# Altium integrated library Silicon Labs Low-Power MCUs.IntLib: 64 symbols (part 3 of 4)
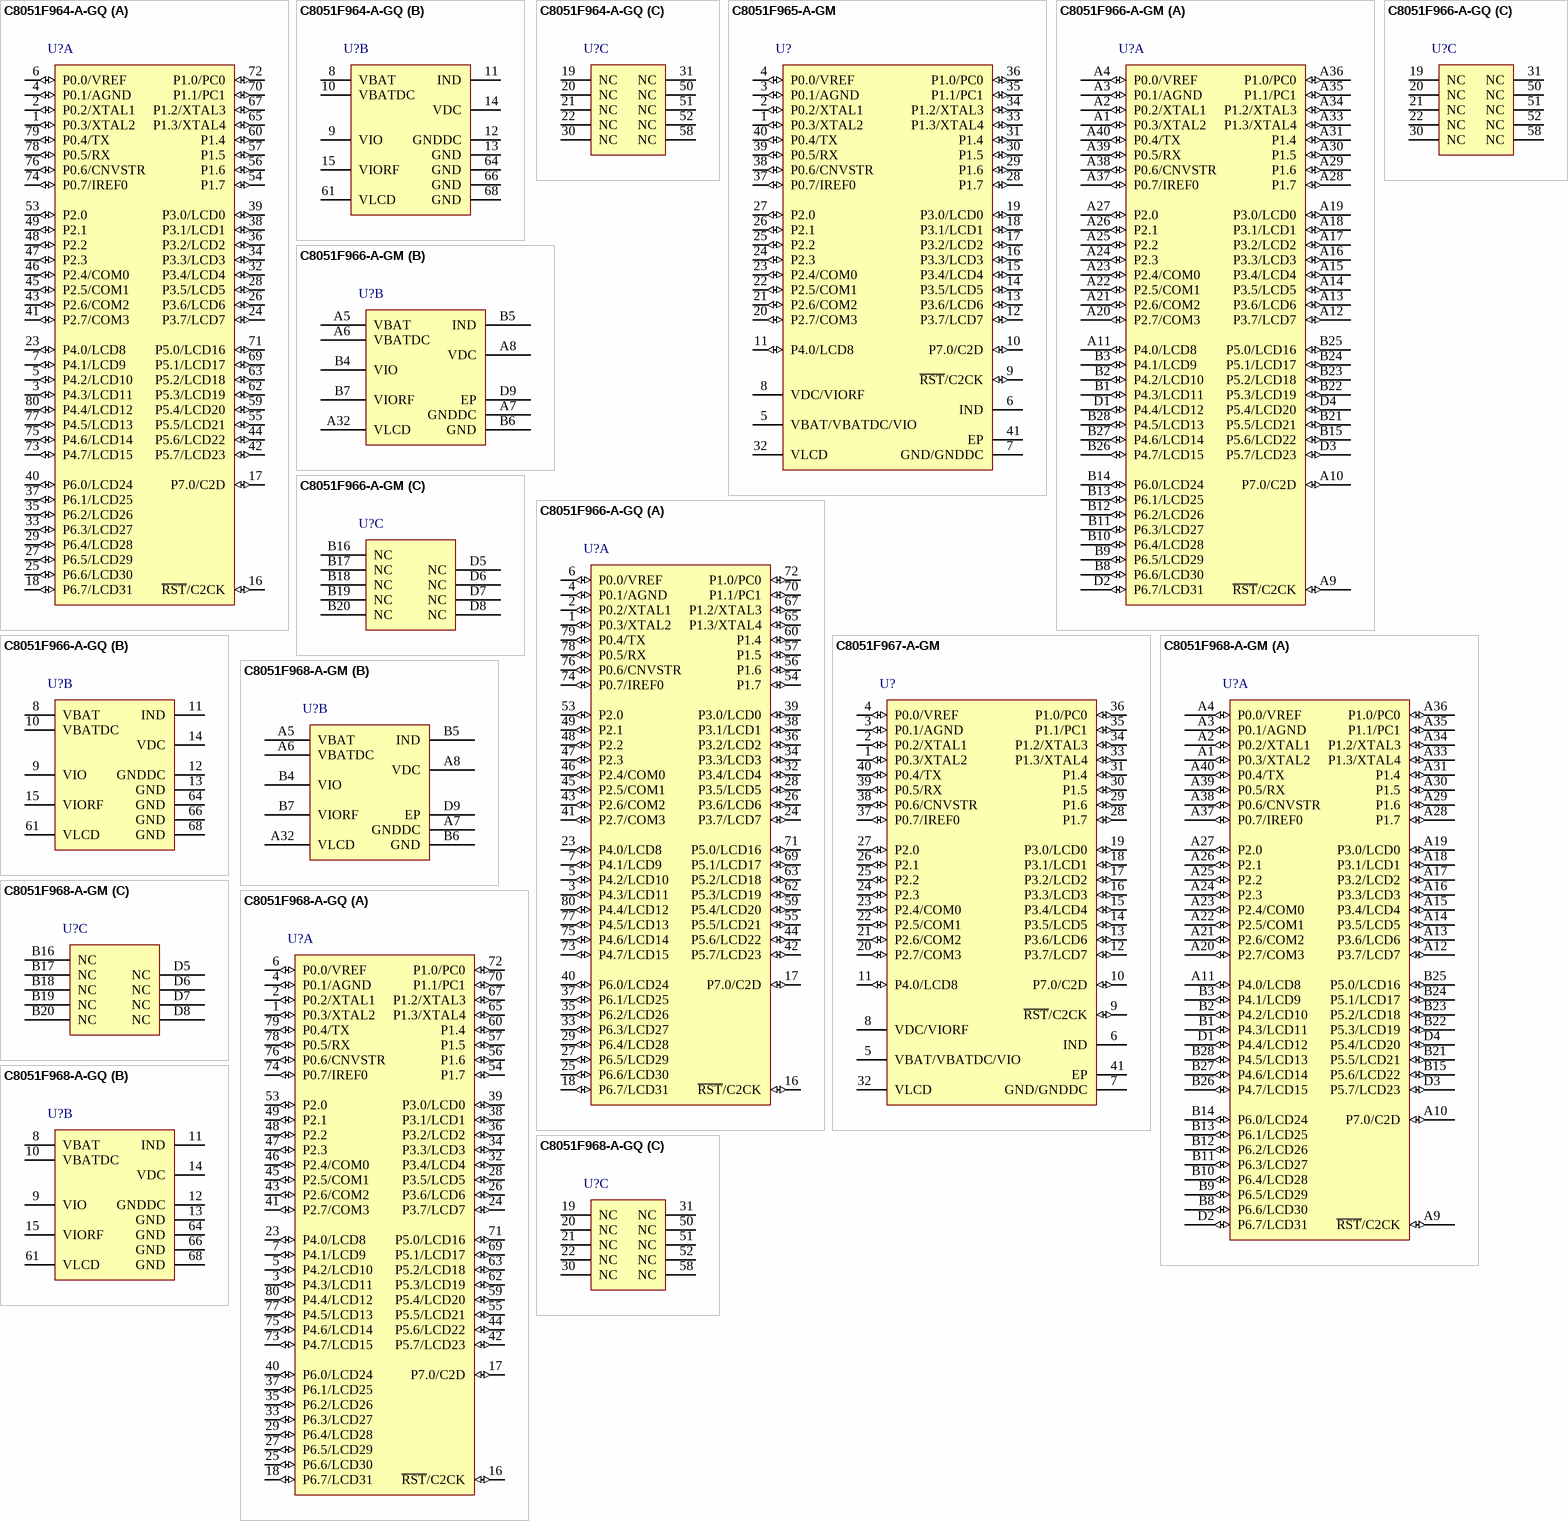
[diagram p7: symbols C8051F964-A-GQ to C8051F968-A-GQ]

## C8051F967-A-GM
designator U?
Ultra Low Power, LCD MCU Family, 25 MHz, 8.25 kB RAM, 32 kB Flash, -40 to 85 degC, 40-pin QFN; Manufacturer: Silicon Labs; PartNumber: C8051F967-A-GM; ADC 1: 12-bit, 16-ch., 75 ksps; AEC-Q100: FALSE; Comparators: 2; Debug Interface: C2; Dig I/O Pins: 34; Flash: 32 kB; Internal Osc. Accuracy: +/-2%; MCU Core: 8051; MHz: 25; PCA Channels: 6; RAM: 8.25 KB; Temp Sensor: TRUE; Timers (16-bit): 4; Sub-Family: Low-Power MCUs; DatasheetVersion: Rev. 0.5; PackageReference: QFN-40; PackageDescription: 40-Pin Quad-Flat No-Leads Package, Body 6 x 6 mm, Pitch 0.5 mm; Supplier 1: Digi-Key; Supplier Part Number 1: 336-2170-ND; Supplier 2: Mouser; Supplier Part Number 2: 634-C8051F967-A-GM; Mounting Technology: Surface Mount; Code_JEDEC: MO-220; Code_IPC: J-STD-020; ComponentLink1Description: Manufacturer URL; ComponentLink1URL: http://www.silabs.com/; ComponentLink2Description: Datasheet; ComponentLink2URL: http://www.silabs.com/Support Documents/TechnicalDocs/C8051F96x.pdf; ComponentLink3Description: Package Specification; ComponentLink3URL: http://www.silabs.com/Support Documents/TechnicalDocs/C8051F50x-51x.pdf
footprint SLAB-QFN-40-4100x4100TP_N (QFN, 40-Leads, Body 6x6mm, Pitch 0.5mm, Thermal Pad 4.1x4.1mm, IPC Medium Density)
footprint SLAB-QFN-40-4100x4100TP_L (QFN, 40-Leads, Body 6x6mm, Pitch 0.5mm, Thermal Pad 4.1x4.1mm, IPC High Density)
footprint SLAB-QFN-40-4100x4100TP_M (QFN, 40-Leads, Body 6x6mm, Pitch 0.5mm, Thermal Pad 4.1x4.1mm, IPC Low Density)
pins: 1 P0.3/XTAL2 (io), 2 P0.2/XTAL1 (io), 3 P0.1/AGND (io), 4 P0.0/VREF (io), 5 VBAT/VBATDC/VIO (power), 6 IND "DC-DC Inductor Pin. This pin requires a 560 nH inductor to VDC if the dc-dc converter is used.", 7 GND/GNDDC (power) "DC-DC converter return current path. This pin is typically tied to the ground plane.", 8 VDC/VIORF (power), 9 ~{RST}/C2CK (io), 10 P7.0/C2D (io), 11 P4.0/LCD8 (io), 12 P3.7/LCD7 (io), 13 P3.6/LCD6 (io), 14 P3.5/LCD5 (io), 15 P3.4/LCD4 (io), 16 P3.3/LCD3 (io), 17 P3.2/LCD2 (io), 18 P3.1/LCD1 (io), 19 P3.0/LCD0 (io), 20 P2.7/COM3 (io), 21 P2.6/COM2 (io), 22 P2.5/COM1 (io), 23 P2.4/COM0 (io), 24 P2.3 (io) "Port 2.3. See Port I/O Section for a complete description.", 25 P2.2 (io) "Port 2.2. See Port I/O Section for a complete description.", 26 P2.1 (io) "Port 2.1. See Port I/O Section for a complete description.", 27 P2.0 (io) "Port 2.0. See Port I/O Section for a complete description.", 28 P1.7 (io) "Port 1.7. See Port I/O Section for a complete description.", 29 P1.6 (io) "Port 1.6. See Port I/O Section for a complete description.", 30 P1.5 (io) "Port 1.5. See Port I/O Section for a complete description.", 31 P1.4 (io) "Port 1.4. See Port I/O Section for a complete description.", 32 VLCD (power) "CD Power Supply. This pin requires a 10 uF capacitor to stabilize the charge pump.", 33 P1.3/XTAL4 (io), 34 P1.2/XTAL3 (io), 35 P1.1/PC1 (io), 36 P1.0/PC0 (io), 37 P0.7/IREF0 (io), 38 P0.6/CNVSTR (io), 39 P0.5/RX (io), 40 P0.4/TX (io), 41 EP (power)

## C8051F968-A-GM
designator U?
Ultra Low Power, LCD MCU Family, 25 MHz, 4.25 kB RAM, 16 kB Flash, -40 to 85 degC, 76-pin DQFN; Manufacturer: Silicon Labs; PartNumber: C8051F968-A-GM; ADC 1: 12-bit, 16-ch., 75 ksps; AEC-Q100: FALSE; Comparators: 2; Debug Interface: C2; Dig I/O Pins: 57; Flash: 16 kB; Internal Osc. Accuracy: +/-2%; MCU Core: 8051; MHz: 25; PCA Channels: 6; RAM: 4.25 kB; Temp Sensor: TRUE; Timers (16-bit): 4; Sub-Family: Low-Power MCUs; DatasheetVersion: Rev. 0.5; PackageReference: DQFN-76; PackageDescription: 76-Pin DQFN, Body 6 x 6 mm, Pitch 0.5 mm; Supplier 1: Digi-Key; Supplier Part Number 1: 336-2171-ND; Supplier 2: Mouser; Supplier Part Number 2: 634-C8051F968-A-GM; Mounting Technology: Surface Mount; Code_IPC: J-STD-020; ComponentLink1Description: Manufacturer URL; ComponentLink1URL: http://www.silabs.com/; ComponentLink2Description: Datasheet; ComponentLink2URL: http://www.silabs.com/Support Documents/TechnicalDocs/C8051F99x.pdf; ComponentLink3Description: Package Specification; ComponentLink3URL: http://www.silabs.com/Support%20Documents/TechnicalDocs/C8051F96x.pdf
footprint SLAB-DQFN-76-3100x3100TP_V (DQFN, 76-Leads, Body 6x6mm, Pitch 0.5mm, Thermal Pad 3.2x3.2mm)
part A pins: A1 P0.3/XTAL2 (io), A2 P0.2/XTAL1 (io), A3 P0.1/AGND (io), A4 P0.0/VREF (io), A9 ~{RST}/C2CK (io), A10 P7.0/C2D (io), A11 P4.0/LCD8 (io), A12 P3.7/LCD7 (io), A13 P3.6/LCD6 (io), A14 P3.5/LCD5 (io), A15 P3.4/LCD4 (io), A16 P3.3/LCD3 (io), A17 P3.2/LCD2 (io), A18 P3.1/LCD1 (io), A19 P3.0/LCD0 (io), A20 P2.7/COM3 (io), A21 P2.6/COM2 (io), A22 P2.5/COM1 (io), A23 P2.4/COM0 (io), A24 P2.3 (io) "Port 2.3. See Port I/O Section for a complete description.", A25 P2.2 (io) "Port 2.2. See Port I/O Section for a complete description.", A26 P2.1 (io) "Port 2.1. See Port I/O Section for a complete description.", A27 P2.0 (io) "Port 2.0. See Port I/O Section for a complete description.", A28 P1.7 (io) "Port 1.7. See Port I/O Section for a complete description.", A29 P1.6 (io) "Port 1.6. See Port I/O Section for a complete description.", A30 P1.5 (io) "Port 1.5. See Port I/O Section for a complete description.", A31 P1.4 (io) "Port 1.4. See Port I/O Section for a complete description.", A33 P1.3/XTAL4 (io), A34 P1.2/XTAL3 (io), A35 P1.1/PC1 (io), A36 P1.0/PC0 (io), A37 P0.7/IREF0 (io), A38 P0.6/CNVSTR (io), A39 P0.5/RX (io), A40 P0.4/TX (io), B1 P4.3/LCD11 (io), B2 P4.2/LCD10 (io), B3 P4.1/LCD9 (io), B8 P6.6/LCD30 (io), B9 P6.5/LCD29 (io), B10 P6.4/LCD28 (io), B11 P6.3/LCD27 (io), B12 P6.2/LCD26 (io), B13 P6.1/LCD25 (io), B14 P6.0/LCD24 (io), B15 P5.6/LCD22 (io), B21 P5.5/LCD21 (io), B22 P5.3/LCD19 (io), B23 P5.2/LCD18 (io), B24 P5.1/LCD17 (io), B25 P5.0/LCD16 (io), B26 P4.7/LCD15 (io), B27 P4.6/LCD14 (io), B28 P4.5/LCD13 (io), D1 P4.4/LCD12 (io), D2 P6.7/LCD31 (io), D3 P5.7/LCD23 (io), D4 P5.4/LCD20 (io)
part B pins: A5 VBAT (power) "Battery Supply Voltage. Must be 1.8 to 3.6 V.", A6 VBATDC (power) "DC0 Input Voltage. Must be 1.8 to 3.6 V.", A7 GNDDC (power) "DC-DC converter return current path. This pin is typically tied to the ground plane.", A8 VDC (power) "Alternate Power Supply Voltage. Must be 1.8 to 3.6V. This supply voltage must always be <= VBAT. Software may select this supply voltage to power the digital logic. Positive output of the dc-dc converter. A 1uF to 10u(See Datasheet)", A32 VLCD (power) "CD Power Supply. This pin requires a 10 uF capacitor to stabilize the charge pump.", B4 VIO (power) "I/O Power Supply for P0.0-P1.4 and P2.4-P7.0 pins. This supply voltage must always be <= VBAT.", B5 IND "DC-DC Inductor Pin. This pin requires a 560 nH inductor to VDC if the dc-dc converter is used.", B6 GND (power) "DC-DC converter return current path. This pin is typically tied to the ground plane.", B7 VIORF (power) "I/O Power Supply for P1.5-P2.3 pins. This supply voltage must always be <= VBAT.", D9 EP
part C pins: B16 NC, B17 NC, B18 NC, B19 NC, B20 NC, D5 NC, D6 NC, D7 NC, D8 NC

## C8051F968-A-GQ
designator U?
Ultra Low Power, LCD MCU Family, 25 MHz, 4.25 kB RAM, 16 kB Flash, -40 to 85 degC, 80-pin QFP; Manufacturer: Silicon Labs; PartNumber: C8051F968-A-GQ; ADC 1: 12-bit, 16-ch., 75 ksps; AEC-Q100: FALSE; Comparators: 2; Debug Interface: C2; Dig I/O Pins: 57; Flash: 16 kB; Internal Osc. Accuracy: +/-2%; MCU Core: 8051; MHz: 25; PCA Channels: 6; RAM: 4.25 kB; Temp Sensor: TRUE; Timers (16-bit): 4; Sub-Family: Low-Power MCUs; DatasheetVersion: Rev. 0.5; PackageReference: TQFP-80; PackageDescription: 80-Pin Thin Quad Flat Package, Body 12 x 12 mm, Pitch 0.5 mm; Supplier 1: Digi-Key; Supplier Part Number 1: 336-2250-5-ND; Supplier 2: Mouser; Supplier Part Number 2: 634-C8051F968-A-GQ; Mounting Technology: Surface Mount; Code_JEDEC: MS-026; Code_IPC: J-STD-020; ComponentLink1Description: Manufacturer URL; ComponentLink1URL: http://www.silabs.com/; ComponentLink2Description: Datasheet; ComponentLink2URL: http://www.silabs.com/Support%20Documents/TechnicalDocs/C8051F96x.pdf; ComponentLink3Description: Package Specification; ComponentLink3URL: http://www.silabs.com/Support%20Documents/TechnicalDocs/SiM3L1xx.pdf
footprint SLAB-TQFP-80_N (QFP, 80-Leads, Body 12x12mm, Pitch 0.5mm, IPC Medium Density)
footprint SLAB-TQFP-80_L (QFP, 80-Leads, Body 12x12mm, Pitch 0.5mm, IPC High Density)
footprint SLAB-TQFP-80_M (QFP, 80-Leads, Body 12x12mm, Pitch 0.5mm, IPC Low Density)
part A pins: 1 P0.3/XTAL2 (io), 2 P0.2/XTAL1 (io), 3 P4.3/LCD11 (io), 4 P0.1/AGND (io), 5 P4.2/LCD10 (io), 6 P0.0/VREF (io), 7 P4.1/LCD9 (io), 16 ~{RST}/C2CK (io), 17 P7.0/C2D (io), 18 P6.7/LCD31 (io), 23 P4.0/LCD8 (io), 24 P3.7/LCD7 (io), 25 P6.6/LCD30 (io), 26 P3.6/LCD6 (io), 27 P6.5/LCD29 (io), 28 P3.5/LCD5 (io), 29 P6.4/LCD28 (io), 32 P3.4/LCD4 (io), 33 P6.3/LCD27 (io), 34 P3.3/LCD3 (io), 35 P6.2/LCD26 (io), 36 P3.2/LCD2 (io), 37 P6.1/LCD25 (io), 38 P3.1/LCD1 (io), 39 P3.0/LCD0 (io), 40 P6.0/LCD24 (io), 41 P2.7/COM3 (io), 42 P5.7/LCD23 (io), 43 P2.6/COM2 (io), 44 P5.6/LCD22 (io), 45 P2.5/COM1 (io), 46 P2.4/COM0 (io), 47 P2.3 (io) "Port 2.3. See Port I/O Section for a complete description.", 48 P2.2 (io) "Port 2.2. See Port I/O Section for a complete description.", 49 P2.1 (io) "Port 2.1. See Port I/O Section for a complete description.", 53 P2.0 (io) "Port 2.0. See Port I/O Section for a complete description.", 54 P1.7 (io) "Port 1.7. See Port I/O Section for a complete description.", 55 P5.5/LCD21 (io), 56 P1.6 (io) "Port 1.6. See Port I/O Section for a complete description.", 57 P1.5 (io) "Port 1.5. See Port I/O Section for a complete description.", 59 P5.4/LCD20 (io), 60 P1.4 (io) "Port 1.4. See Port I/O Section for a complete description.", 62 P5.3/LCD19 (io), 63 P5.2/LCD18 (io), 65 P1.3/XTAL4 (io), 67 P1.2/XTAL3 (io), 69 P5.1/LCD17 (io), 70 P1.1/PC1 (io), 71 P5.0/LCD16 (io), 72 P1.0/PC0 (io), 73 P4.7/LCD15 (io), 74 P0.7/IREF0 (io), 75 P4.6/LCD14 (io), 76 P0.6/CNVSTR (io), 77 P4.5/LCD13 (io), 78 P0.5/RX (io), 79 P0.4/TX (io), 80 P4.4/LCD12 (io)
part B pins: 8 VBAT (power) "Battery Supply Voltage. Must be 1.8 to 3.6 V.", 9 VIO (power) "I/O Power Supply for P0.0-P1.4 and P2.4-P7.0 pins. This supply voltage must always be <= VBAT.", 10 VBATDC (power) "DC0 Input Voltage. Must be 1.8 to 3.6 V.", 11 IND "DC-DC Inductor Pin. This pin requires a 560 nH inductor to VDC if the dc-dc converter is used.", 12 GNDDC (power) "DC-DC converter return current path. This pin is typically tied to the ground plane.", 13 GND (power) "Required Ground.", 14 VDC (power) "Alternate Power Supply Voltage. Must be 1.8 to 3.6V. This supply voltage must always be ? VBAT. Software may select this supply voltage to power the digital logic. Positive output of the dc-dc converter. A 1uF to 10u(See Datasheet)", 15 VIORF (power) "I/O Power Supply for P1.5-P2.3 pins. This supply voltage must always be <= VBAT.", 61 VLCD (power) "CD Power Supply. This pin requires a 10 uF capacitor to stabilize the charge pump.", 64 GND (power) "Required Ground.", 66 GND (power) "Required Ground.", 68 GND (power) "Required Ground."
part C pins: 19 NC, 20 NC, 21 NC, 22 NC, 30 NC, 31 NC, 50 NC, 51 NC, 52 NC, 58 NC

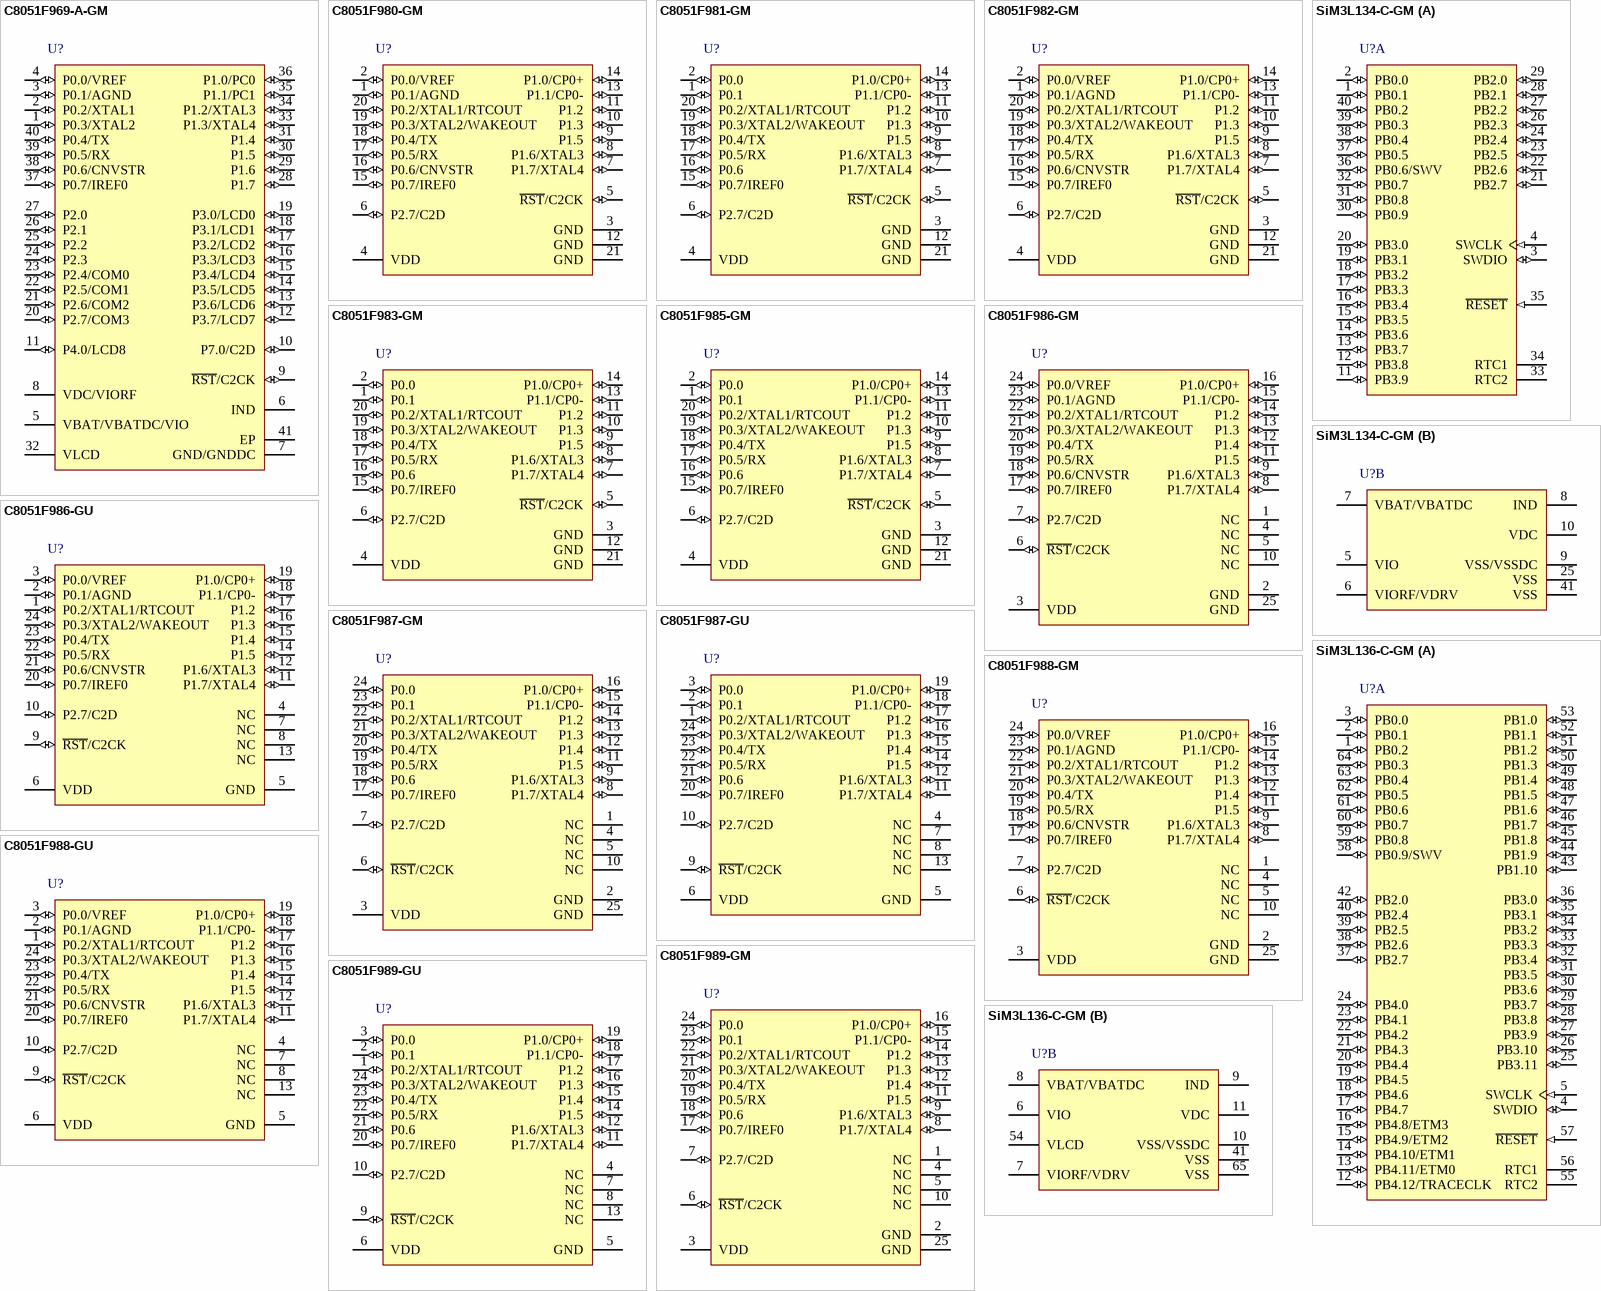
[diagram p3: symbols C8051F969-A-GM to SiM3L136-C-GM]

## C8051F969-A-GM
designator U?
Ultra Low Power, LCD MCU Family, 25 MHz, 4.25 kB RAM, 16 kB Flash, -40 to 85 degC, 40-pin QFN; Manufacturer: Silicon Labs; PartNumber: C8051F969-A-GM; ADC 1: 12-bit, 16-ch., 75 ksps; AEC-Q100: FALSE; Comparators: 2; Debug Interface: C2; Dig I/O Pins: 34; Flash: 16 kB; Internal Osc. Accuracy: +/-2%; MCU Core: 8051; MHz: 25; PCA Channels: 6; RAM: 4.25 kB; Temp Sensor: TRUE; Timers (16-bit): 4; Sub-Family: Low-Power MCUs; DatasheetVersion: Rev. 0.5; PackageReference: QFN-40; PackageDescription: 40-Pin Quad-Flat No-Leads Package, Body 6 x 6 mm, Pitch 0.5 mm; Supplier 1: Digi-Key; Supplier Part Number 1: 336-2172-ND; Supplier 2: Mouser; Supplier Part Number 2: 634-C8051F969-A-GM; Mounting Technology: Surface Mount; Code_JEDEC: MO-220; Code_IPC: J-STD-020; ComponentLink1Description: Manufacturer URL; ComponentLink1URL: http://www.silabs.com/; ComponentLink2Description: Datasheet; ComponentLink2URL: http://www.silabs.com/Support Documents/TechnicalDocs/C8051F96x.pdf; ComponentLink3Description: Package Specification; ComponentLink3URL: http://www.silabs.com/Support Documents/TechnicalDocs/C8051F50x-51x.pdf
footprint SLAB-QFN-40-4100x4100TP_N (QFN, 40-Leads, Body 6x6mm, Pitch 0.5mm, Thermal Pad 4.1x4.1mm, IPC Medium Density)
footprint SLAB-QFN-40-4100x4100TP_L (QFN, 40-Leads, Body 6x6mm, Pitch 0.5mm, Thermal Pad 4.1x4.1mm, IPC High Density)
footprint SLAB-QFN-40-4100x4100TP_M (QFN, 40-Leads, Body 6x6mm, Pitch 0.5mm, Thermal Pad 4.1x4.1mm, IPC Low Density)
pins: 1 P0.3/XTAL2 (io), 2 P0.2/XTAL1 (io), 3 P0.1/AGND (io), 4 P0.0/VREF (io), 5 VBAT/VBATDC/VIO (power), 6 IND "DC-DC Inductor Pin. This pin requires a 560 nH inductor to VDC if the dc-dc converter is used.", 7 GND/GNDDC (power) "DC-DC converter return current path. This pin is typically tied to the ground plane.", 8 VDC/VIORF (power), 9 ~{RST}/C2CK (io), 10 P7.0/C2D (io), 11 P4.0/LCD8 (io), 12 P3.7/LCD7 (io), 13 P3.6/LCD6 (io), 14 P3.5/LCD5 (io), 15 P3.4/LCD4 (io), 16 P3.3/LCD3 (io), 17 P3.2/LCD2 (io), 18 P3.1/LCD1 (io), 19 P3.0/LCD0 (io), 20 P2.7/COM3 (io), 21 P2.6/COM2 (io), 22 P2.5/COM1 (io), 23 P2.4/COM0 (io), 24 P2.3 (io) "Port 2.3. See Port I/O Section for a complete description.", 25 P2.2 (io) "Port 2.2. See Port I/O Section for a complete description.", 26 P2.1 (io) "Port 2.1. See Port I/O Section for a complete description.", 27 P2.0 (io) "Port 2.0. See Port I/O Section for a complete description.", 28 P1.7 (io) "Port 1.7. See Port I/O Section for a complete description.", 29 P1.6 (io) "Port 1.6. See Port I/O Section for a complete description.", 30 P1.5 (io) "Port 1.5. See Port I/O Section for a complete description.", 31 P1.4 (io) "Port 1.4. See Port I/O Section for a complete description.", 32 VLCD (power) "CD Power Supply. This pin requires a 10 uF capacitor to stabilize the charge pump.", 33 P1.3/XTAL4 (io), 34 P1.2/XTAL3 (io), 35 P1.1/PC1 (io), 36 P1.0/PC0 (io), 37 P0.7/IREF0 (io), 38 P0.6/CNVSTR (io), 39 P0.5/RX (io), 40 P0.4/TX (io), 41 EP (power)

## C8051F980-GM
designator U?
Ultra Low Power, Capacitive Sensing MCU, 25 MHz, 0.5 kB RAM, 8 kB Flash, -40 to 85 degC, 20-pin QFN; Manufacturer: Silicon Labs; PartNumber: C8051F980-GM; AEC-Q100: FALSE; Comparators: 1; Debug Interface: C2; Dig I/O Pins: 16; Flash: 8 kB; Internal Osc. Accuracy: +/-2%; MCU Core: 8051; MHz: 25; PCA Channels: 3; RAM: 0.5 kB; Temp Sensor: TRUE; Timers (16-bit): 4; Sub-Family: Low-Power MCUs; DatasheetVersion: Rev. 1.1; PackageReference: QFN-20; PackageDescription: 20-Pin Quad-Flat No-Leads Package, Body 3 x 3 mm, Pitch 0.5 mm; Supplier 1: Digi-Key; Supplier Part Number 1: 336-1948-5-ND; Supplier 2: Mouser; Supplier Part Number 2: 634-C8051F980-GM; Mounting Technology: Surface Mount; Code_IPC: J-STD-020; ComponentLink1Description: Manufacturer URL; ComponentLink1URL: http://www.silabs.com/; ComponentLink2Description: Datasheet; ComponentLink2URL: http://www.silabs.com/Support Documents/TechnicalDocs/C8051F99x.pdf; ComponentLink3Description: Package Specification; ComponentLink3URL: http://www.silabs.com/Support%20Documents/TechnicalDocs/C8051F99x.pdf
footprint SLAB-QFN-20-1700x1700TP_V (QFN, 20-Leads, Body 3x3mm, Pitch 0.5mm, Thermal Pad 1.7x1.7mm)
pins: 1 P0.1/AGND (io), 2 P0.0/VREF (io), 3 GND (power) "Required Ground.", 4 VDD (power) "Power Supply Voltage. Must be 1.8 to 3.6 V.", 5 ~{RST}/C2CK (io), 6 P2.7/C2D (io), 7 P1.7/XTAL4 (io), 8 P1.6/XTAL3 (io), 9 P1.5 (io) "Port 1.5.", 10 P1.3 (io) "Port 1.3.", 11 P1.2 (io) "Port 1.2.", 12 GND (power) "Required Ground.", 13 P1.1/CP0- (io), 14 P1.0/CP0+ (io), 15 P0.7/IREF0 (io), 16 P0.6/CNVSTR (io), 17 P0.5/RX (io), 18 P0.4/TX (io), 19 P0.3/XTAL2/WAKEOUT (io), 20 P0.2/XTAL1/RTCOUT (io), 21 GND (power) "Required Ground."

## C8051F981-GM
designator U?
Ultra Low Power, Capacitive Sensing MCU, 25 MHz, 0.5 kB RAM, 8 kB Flash, -40 to 85 degC, 20-pin QFN; Manufacturer: Silicon Labs; PartNumber: C8051F981-GM; AEC-Q100: FALSE; Comparators: 1; Debug Interface: C2; Dig I/O Pins: 16; Flash: 8 kB; Internal Osc. Accuracy: +/-2%; MCU Core: 8051; MHz: 25; PCA Channels: 3; RAM: 0.5 kB; Timers (16-bit): 4; Sub-Family: Low-Power MCUs; DatasheetVersion: Rev. 1.1; PackageReference: QFN-20; PackageDescription: 20-Pin Quad-Flat No-Leads Package, Body 3 x 3 mm, Pitch 0.5 mm; Supplier 1: Digi-Key; Supplier Part Number 1: 336-1947-5-ND; Supplier 2: Mouser; Supplier Part Number 2: 634-C8051F981-GM; Temp Sensor: FALSE; Mounting Technology: Surface Mount; Code_IPC: J-STD-020; ComponentLink1Description: Manufacturer URL; ComponentLink1URL: http://www.silabs.com/; ComponentLink2Description: Datasheet; ComponentLink2URL: http://www.silabs.com/Support Documents/TechnicalDocs/C8051F99x.pdf; ComponentLink3Description: Package Specification; ComponentLink3URL: http://www.silabs.com/Support%20Documents/TechnicalDocs/C8051F99x.pdf
footprint SLAB-QFN-20-1700x1700TP_V (QFN, 20-Leads, Body 3x3mm, Pitch 0.5mm, Thermal Pad 1.7x1.7mm)
pins: 1 P0.1 (io) "Port 0.1.", 2 P0.0 (io) "Port 0.0.", 3 GND (power) "Required Ground.", 4 VDD (power) "Power Supply Voltage. Must be 1.8 to 3.6 V.", 5 ~{RST}/C2CK (io), 6 P2.7/C2D (io), 7 P1.7/XTAL4 (io), 8 P1.6/XTAL3 (io), 9 P1.5 (io) "Port 1.5.", 10 P1.3 (io) "Port 1.3.", 11 P1.2 (io) "Port 1.2.", 12 GND (power) "Required Ground.", 13 P1.1/CP0- (io), 14 P1.0/CP0+ (io), 15 P0.7/IREF0 (io), 16 P0.6 (io) "Port 0.6.", 17 P0.5/RX (io), 18 P0.4/TX (io), 19 P0.3/XTAL2/WAKEOUT (io), 20 P0.2/XTAL1/RTCOUT (io), 21 GND (power) "Required Ground."

## C8051F982-GM
designator U?
Ultra Low Power, Capacitive Sensing MCU, 25 MHz, 0.5 kB RAM, 4 kB Flash, -40 to 85 degC, 20-pin QFN; Manufacturer: Silicon Labs; PartNumber: C8051F982-GM; AEC-Q100: FALSE; Comparators: 1; Debug Interface: C2; Dig I/O Pins: 16; Flash: 4 kB; Internal Osc. Accuracy: +/-2%; MCU Core: 8051; MHz: 25; PCA Channels: 3; RAM: 0.5 kB; Temp Sensor: TRUE; Timers (16-bit): 4; Sub-Family: Low-Power MCUs; DatasheetVersion: Rev. 1.1; PackageReference: QFN-20; PackageDescription: 20-Pin Quad-Flat No-Leads Package, Body 3 x 3 mm, Pitch 0.5 mm; Supplier 1: Digi-Key; Supplier Part Number 1: 336-1949-5-ND; Supplier 2: Mouser; Supplier Part Number 2: 634-C8051F982-GM; Mounting Technology: Surface Mount; Code_IPC: J-STD-020; ComponentLink1Description: Manufacturer URL; ComponentLink1URL: http://www.silabs.com/; ComponentLink2Description: Datasheet; ComponentLink2URL: http://www.silabs.com/Support Documents/TechnicalDocs/C8051F99x.pdf; ComponentLink3Description: Package Specification; ComponentLink3URL: http://www.silabs.com/Support%20Documents/TechnicalDocs/C8051F99x.pdf
footprint SLAB-QFN-20-1700x1700TP_V (QFN, 20-Leads, Body 3x3mm, Pitch 0.5mm, Thermal Pad 1.7x1.7mm)
pins: 1 P0.1/AGND (io), 2 P0.0/VREF (io), 3 GND (power) "Required Ground.", 4 VDD (power) "Power Supply Voltage. Must be 1.8 to 3.6 V.", 5 ~{RST}/C2CK (io), 6 P2.7/C2D (io), 7 P1.7/XTAL4 (io), 8 P1.6/XTAL3 (io), 9 P1.5 (io) "Port 1.5.", 10 P1.3 (io) "Port 1.3.", 11 P1.2 (io) "Port 1.2.", 12 GND (power) "Required Ground.", 13 P1.1/CP0- (io), 14 P1.0/CP0+ (io), 15 P0.7/IREF0 (io), 16 P0.6/CNVSTR (io), 17 P0.5/RX (io), 18 P0.4/TX (io), 19 P0.3/XTAL2/WAKEOUT (io), 20 P0.2/XTAL1/RTCOUT (io), 21 GND (power) "Required Ground."

## C8051F983-GM
designator U?
Ultra Low Power, Capacitive Sensing MCU, 25 MHz, 0.5 kB RAM, 4 kB Flash, -40 to 85 degC, 20-pin QFN; Manufacturer: Silicon Labs; PartNumber: C8051F983-GM; AEC-Q100: FALSE; Comparators: 1; Debug Interface: C2; Dig I/O Pins: 16; Flash: 4 kB; Internal Osc. Accuracy: +/-2%; MCU Core: 8051; MHz: 25; PCA Channels: 3; RAM: 0.5 kB; Timers (16-bit): 4; Sub-Family: Low-Power MCUs; DatasheetVersion: Rev. 1.1; PackageReference: QFN-20; PackageDescription: 20-Pin Quad-Flat No-Leads Package, Body 3 x 3 mm, Pitch 0.5 mm; Supplier 1: Digi-Key; Supplier Part Number 1: 336-1950-5-ND; Supplier 2: Mouser; Supplier Part Number 2: 634-C8051F983-GM; Temp Sensor: FALSE; Mounting Technology: Surface Mount; Code_IPC: J-STD-020; ComponentLink1Description: Manufacturer URL; ComponentLink1URL: http://www.silabs.com/; ComponentLink2Description: Datasheet; ComponentLink2URL: http://www.silabs.com/Support Documents/TechnicalDocs/C8051F99x.pdf; ComponentLink3Description: Package Specification; ComponentLink3URL: http://www.silabs.com/Support%20Documents/TechnicalDocs/C8051F99x.pdf
footprint SLAB-QFN-20-1700x1700TP_V (QFN, 20-Leads, Body 3x3mm, Pitch 0.5mm, Thermal Pad 1.7x1.7mm)
pins: 1 P0.1 (io) "Port 0.1.", 2 P0.0 (io) "Port 0.0.", 3 GND (power) "Required Ground.", 4 VDD (power) "Power Supply Voltage. Must be 1.8 to 3.6 V.", 5 ~{RST}/C2CK (io), 6 P2.7/C2D (io), 7 P1.7/XTAL4 (io), 8 P1.6/XTAL3 (io), 9 P1.5 (io) "Port 1.5.", 10 P1.3 (io) "Port 1.3.", 11 P1.2 (io) "Port 1.2.", 12 GND (power) "Required Ground.", 13 P1.1/CP0- (io), 14 P1.0/CP0+ (io), 15 P0.7/IREF0 (io), 16 P0.6 (io) "Port 0.6.", 17 P0.5/RX (io), 18 P0.4/TX (io), 19 P0.3/XTAL2/WAKEOUT (io), 20 P0.2/XTAL1/RTCOUT (io), 21 GND (power) "Required Ground."

## C8051F985-GM
designator U?
Ultra Low Power, Capacitive Sensing MCU, 25 MHz, 0.5 kB RAM, 2 kB Flash, -40 to 85 degC, 20-pin QFN; Manufacturer: Silicon Labs; PartNumber: C8051F985-GM; AEC-Q100: FALSE; Comparators: 1; Debug Interface: C2; Dig I/O Pins: 16; Flash: 2 kB; Internal Osc. Accuracy: +/-2%; MCU Core: 8051; MHz: 25; PCA Channels: 3; RAM: 0.5 kB; Timers (16-bit): 4; Sub-Family: Low-Power MCUs; DatasheetVersion: Rev. 1.1; PackageReference: QFN-20; PackageDescription: 20-Pin Quad-Flat No-Leads Package, Body 3 x 3 mm, Pitch 0.5 mm; Supplier 1: Digi-Key; Supplier Part Number 1: 336-1951-5-ND; Supplier 2: Mouser; Supplier Part Number 2: 634-C8051F985-GM; Temp Sensor: FALSE; Mounting Technology: Surface Mount; Code_IPC: J-STD-020; ComponentLink1Description: Manufacturer URL; ComponentLink1URL: http://www.silabs.com/; ComponentLink2Description: Datasheet; ComponentLink2URL: http://www.silabs.com/Support Documents/TechnicalDocs/C8051F99x.pdf; ComponentLink3Description: Package Specification; ComponentLink3URL: http://www.silabs.com/Support%20Documents/TechnicalDocs/C8051F99x.pdf
footprint SLAB-QFN-20-1700x1700TP_V (QFN, 20-Leads, Body 3x3mm, Pitch 0.5mm, Thermal Pad 1.7x1.7mm)
pins: 1 P0.1 (io) "Port 0.1.", 2 P0.0 (io) "Port 0.0.", 3 GND (power) "Required Ground.", 4 VDD (power) "Power Supply Voltage. Must be 1.8 to 3.6 V.", 5 ~{RST}/C2CK (io), 6 P2.7/C2D (io), 7 P1.7/XTAL4 (io), 8 P1.6/XTAL3 (io), 9 P1.5 (io) "Port 1.5.", 10 P1.3 (io) "Port 1.3.", 11 P1.2 (io) "Port 1.2.", 12 GND (power) "Required Ground.", 13 P1.1/CP0- (io), 14 P1.0/CP0+ (io), 15 P0.7/IREF0 (io), 16 P0.6 (io) "Port 0.6.", 17 P0.5/RX (io), 18 P0.4/TX (io), 19 P0.3/XTAL2/WAKEOUT (io), 20 P0.2/XTAL1/RTCOUT (io), 21 GND (power) "Required Ground."

## C8051F986-GM
designator U?
Ultra Low Power, Capacitive Sensing MCU, 25 MHz, 0.5 kB RAM, 8 kB Flash, -40 to 85 degC, 24-pin QFN; Manufacturer: Silicon Labs; PartNumber: C8051F986-GM; AEC-Q100: FALSE; Comparators: 1; Debug Interface: C2; Dig I/O Pins: 17; Flash: 8 kB; Internal Osc. Accuracy: +/-2%; MCU Core: 8051; MHz: 25; PCA Channels: 3; RAM: 0.5 kB; Temp Sensor: TRUE; Timers (16-bit): 4; Sub-Family: Low-Power MCUs; DatasheetVersion: Rev. 1.1; PackageReference: QFN-24; PackageDescription: 24-Pin Quad-Flat No-Leads Package, Body 4 x 4 mm, Pitch 0.5 mm; Supplier 1: Digi-Key; Supplier Part Number 1: 336-1952-5-ND; Supplier 2: Mouser; Supplier Part Number 2: 634-C8051F986-GM; Mounting Technology: Surface Mount; Code_JEDEC: MO-220; Code_IPC: J-STD-020; ComponentLink1Description: Manufacturer URL; ComponentLink1URL: http://www.silabs.com/; ComponentLink2Description: Datasheet; ComponentLink2URL: http://www.silabs.com/Support Documents/TechnicalDocs/C8051F99x.pdf; ComponentLink3Description: Package Specification; ComponentLink3URL: http://www.silabs.com/Support%20Documents/TechnicalDocs/C8051F93x-92x.pdf
footprint SLAB-QFN-24-2675x2675TP_N (QFN, 24-Leads, Body 4x4mm, Pitch 0.5mm, Thermal Pad 2.68x2.68mm, IPC Medium Density)
footprint SLAB-QFN-24-2675x2675TP_L (QFN, 24-Leads, Body 4x4mm, Pitch 0.5mm, Thermal Pad 2.68x2.68mm, IPC High Density)
footprint SLAB-QFN-24-2675x2675TP_M (QFN, 24-Leads, Body 4x4mm, Pitch 0.5mm, Thermal Pad 2.68x2.68mm, IPC Low Density)
pins: 1 NC, 2 GND (power) "Required Ground.", 3 VDD (power) "Power Supply Voltage. Must be 1.8 to 3.6 V", 4 NC, 5 NC, 6 ~{RST}/C2CK (io), 7 P2.7/C2D (io), 8 P1.7/XTAL4 (io), 9 P1.6/XTAL3 (io), 10 NC, 11 P1.5 (io) "Port 1.5. See Section “21. Port Input/Output” on  page 213 for a complete description.", 12 P1.4 (io) "Port 1.4. See Section “21. Port Input/Output” on  page 213 for a complete description.", 13 P1.3 (io) "Port 1.3. See Section “21. Port Input/Output” on  page 213 for a complete description.", 14 P1.2 (io) "Port 1.2. See Section “21. Port Input/Output” on  page 213 for a complete description.", 15 P1.1/CP0- (io), 16 P1.0/CP0+ (io), 17 P0.7/IREF0 (io), 18 P0.6/CNVSTR (io), 19 P0.5/RX (io), 20 P0.4/TX (io), 21 P0.3/XTAL2/WAKEOUT (io), 22 P0.2/XTAL1/RTCOUT (io), 23 P0.1/AGND (io), 24 P0.0/VREF (io), 25 GND (power) "Required Ground."

## C8051F986-GU
designator U?
Ultra Low Power, Capacitive Sensing MCU, 25 MHz, 0.5 kB RAM, 8 kB Flash, -40 to 85 degC, 24-pin SOP; Manufacturer: Silicon Labs; PartNumber: C8051F986-GU; AEC-Q100: FALSE; Comparators: 1; Debug Interface: C2; Dig I/O Pins: 17; Flash: 8 kB; Internal Osc. Accuracy: +/-2%; MCU Core: 8051; MHz: 25; PCA Channels: 3; RAM: 0.5 kB; Temp Sensor: TRUE; Timers (16-bit): 4; Sub-Family: Low-Power MCUs; DatasheetVersion: Rev. 1.1; PackageReference: QSOP-24; PackageDescription: 24-Pin Quarter-Size Small-Outline Package, Body 8.65 x 3.9 mm, Pitch 0.635 mm; Supplier 1: Digi-Key; Supplier Part Number 1: 336-1953-5-ND; Supplier 2: Mouser; Supplier Part Number 2: 634-C8051F986-GU; Mounting Technology: Surface Mount; Code_JEDEC: MO-147; Code_IPC: J-STD-020; ComponentLink1Description: Manufacturer URL; ComponentLink1URL: http://www.silabs.com/; ComponentLink2Description: Datasheet; ComponentLink2URL: http://www.silabs.com/Support Documents/TechnicalDocs/C8051F99x.pdf; ComponentLink3Description: Package Specification; ComponentLink3URL: http://www.silabs.com/Support%20Documents/TechnicalDocs/C8051F99x.pdf
footprint SLAB-QSOP-24_N (SOP, 24-Leads, Body 8.65x3.9mm, Pitch 0.635mm, IPC Medium Density)
footprint SLAB-QSOP-24_L (SOP, 24-Leads, Body 8.65x3.9mm, Pitch 0.635mm, IPC High Density)
footprint SLAB-QSOP-24_M (SOP, 24-Leads, Body 8.65x3.9mm, Pitch 0.635mm, IPC Low Density)
pins: 1 P0.2/XTAL1/RTCOUT (io), 2 P0.1/AGND (io), 3 P0.0/VREF (io), 4 NC, 5 GND (power) "Required Ground.", 6 VDD (power) "Power Supply Voltage. Must be 1.8 to 3.6 V", 7 NC, 8 NC, 9 ~{RST}/C2CK (io), 10 P2.7/C2D (io), 11 P1.7/XTAL4 (io), 12 P1.6/XTAL3 (io), 13 NC, 14 P1.5 (io) "Port 1.5. See Section “21. Port Input/Output” on  page 213 for a complete description.", 15 P1.4 (io) "Port 1.4. See Section “21. Port Input/Output” on  page 213 for a complete description.", 16 P1.3 (io) "Port 1.3. See Section “21. Port Input/Output” on  page 213 for a complete description.", 17 P1.2 (io) "Port 1.2. See Section “21. Port Input/Output” on  page 213 for a complete description.", 18 P1.1/CP0- (io), 19 P1.0/CP0+ (io), 20 P0.7/IREF0 (io), 21 P0.6/CNVSTR (io), 22 P0.5/RX (io), 23 P0.4/TX (io), 24 P0.3/XTAL2/WAKEOUT (io)

## C8051F987-GM
designator U?
Ultra Low Power, Capacitive Sensing MCU, 25 MHz, 0.5 kB RAM, 8 kB Flash, -40 to 85 degC, 24-pin QFN; Manufacturer: Silicon Labs; PartNumber: C8051F987-GM; AEC-Q100: FALSE; Comparators: 1; Debug Interface: C2; Dig I/O Pins: 17; Flash: 8 kB; Internal Osc. Accuracy: +/-2%; MCU Core: 8051; MHz: 25; PCA Channels: 3; RAM: 0.5 kB; Timers (16-bit): 4; Sub-Family: Low-Power MCUs; DatasheetVersion: Rev. 1.1; PackageReference: QFN-24; PackageDescription: 24-Pin Quad-Flat No-Leads Package, Body 4 x 4 mm, Pitch 0.5 mm; Supplier 1: Digi-Key; Supplier Part Number 1: 336-1954-5-ND; Supplier 2: Mouser; Supplier Part Number 2: 634-C8051F987-GM; Temp Sensor: FALSE; Mounting Technology: Surface Mount; Code_JEDEC: MO-220; Code_IPC: J-STD-020; ComponentLink1Description: Manufacturer URL; ComponentLink1URL: http://www.silabs.com/; ComponentLink2Description: Datasheet; ComponentLink2URL: http://www.silabs.com/Support Documents/TechnicalDocs/C8051F99x.pdf; ComponentLink3Description: Package Specification; ComponentLink3URL: http://www.silabs.com/Support%20Documents/TechnicalDocs/C8051F93x-92x.pdf
footprint SLAB-QFN-24-2675x2675TP_N (QFN, 24-Leads, Body 4x4mm, Pitch 0.5mm, Thermal Pad 2.68x2.68mm, IPC Medium Density)
footprint SLAB-QFN-24-2675x2675TP_L (QFN, 24-Leads, Body 4x4mm, Pitch 0.5mm, Thermal Pad 2.68x2.68mm, IPC High Density)
footprint SLAB-QFN-24-2675x2675TP_M (QFN, 24-Leads, Body 4x4mm, Pitch 0.5mm, Thermal Pad 2.68x2.68mm, IPC Low Density)
pins: 1 NC, 2 GND (power) "Required Ground.", 3 VDD (power) "Power Supply Voltage. Must be 1.8 to 3.6 V", 4 NC, 5 NC, 6 ~{RST}/C2CK (io), 7 P2.7/C2D (io), 8 P1.7/XTAL4 (io), 9 P1.6/XTAL3 (io), 10 NC, 11 P1.5 (io) "Port 1.5. See Section ”21. Port Input/Output“ on  page 213 for a complete description.", 12 P1.4 (io) "Port 1.4. See Section ”21. Port Input/Output“ on  page 213 for a complete description.", 13 P1.3 (io) "Port 1.3. See Section ”21. Port Input/Output“ on  page 213 for a complete description.", 14 P1.2 (io) "Port 1.2. See Section “21. Port Input/Output” on  page 213 for a complete description.", 15 P1.1/CP0- (io), 16 P1.0/CP0+ (io), 17 P0.7/IREF0 (io), 18 P0.6 (io) "Port 0.6. See Section "21. Port Input/Output" on  page 213 for a complete description.", 19 P0.5/RX (io), 20 P0.4/TX (io), 21 P0.3/XTAL2/WAKEOUT (io), 22 P0.2/XTAL1/RTCOUT (io), 23 P0.1 (io) "Port 0.1. See Port I/O Section for a complete description.", 24 P0.0 (io) "Port 0.0. See Port I/O Section for a complete description.", 25 GND (power) "Required Ground."

## C8051F987-GU
designator U?
Ultra Low Power, Capacitive Sensing MCU, 25 MHz, 0.5 kB RAM, 8 kB Flash, -40 to 85 degC, 24-pin SOP; Manufacturer: Silicon Labs; PartNumber: C8051F987-GU; AEC-Q100: FALSE; Comparators: 1; Debug Interface: C2; Dig I/O Pins: 17; Flash: 8 kB; Internal Osc. Accuracy: +/-2%; MCU Core: 8051; MHz: 25; PCA Channels: 3; RAM: 0.5 kB; Timers (16-bit): 4; Sub-Family: Low-Power MCUs; DatasheetVersion: Rev. 1.1; PackageReference: QSOP-24; PackageDescription: 24-Pin Quarter-Size Small-Outline Package, Body 8.65 x 3.9 mm, Pitch 0.635 mm; Supplier 1: Digi-Key; Supplier Part Number 1: 336-1955-5-ND; Supplier 2: Mouser; Supplier Part Number 2: 634-C8051F987-GU; Temp Sensor: FALSE; Mounting Technology: Surface Mount; Code_JEDEC: MO-147; Code_IPC: J-STD-020; ComponentLink1Description: Manufacturer URL; ComponentLink1URL: http://www.silabs.com/; ComponentLink2Description: Datasheet; ComponentLink2URL: http://www.silabs.com/Support Documents/TechnicalDocs/C8051F99x.pdf; ComponentLink3Description: Package Specification; ComponentLink3URL: http://www.silabs.com/Support%20Documents/TechnicalDocs/C8051F99x.pdf
footprint SLAB-QSOP-24_N (SOP, 24-Leads, Body 8.65x3.9mm, Pitch 0.635mm, IPC Medium Density)
footprint SLAB-QSOP-24_L (SOP, 24-Leads, Body 8.65x3.9mm, Pitch 0.635mm, IPC High Density)
footprint SLAB-QSOP-24_M (SOP, 24-Leads, Body 8.65x3.9mm, Pitch 0.635mm, IPC Low Density)
pins: 1 P0.2/XTAL1/RTCOUT (io), 2 P0.1 (io) "Port 0.1. See Port I/O Section for a complete description", 3 P0.0 (io) "Port 0.0. See Port I/O Section for a complete description.", 4 NC, 5 GND (power) "Required Ground.", 6 VDD (power) "Power Supply Voltage. Must be 1.8 to 3.6 V", 7 NC, 8 NC, 9 ~{RST}/C2CK (io), 10 P2.7/C2D (io), 11 P1.7/XTAL4 (io), 12 P1.6/XTAL3 (io), 13 NC, 14 P1.5 (io) "Port 1.5. See Section “21. Port Input/Output” on  page 213 for a complete description.", 15 P1.4 (io) "Port 1.4. See Section “21. Port Input/Output” on  page 213 for a complete description.", 16 P1.3 (io) "Port 1.3. See Section “21. Port Input/Output” on  page 213 for a complete description.", 17 P1.2 (io) "Port 1.2. See Section “21. Port Input/Output” on  page 213 for a complete description.", 18 P1.1/CP0- (io), 19 P1.0/CP0+ (io), 20 P0.7/IREF0 (io), 21 P0.6 (io) "Port 0.6. See Section “21. Port Input/Output” on  page 213 for a complete description.", 22 P0.5/RX (io), 23 P0.4/TX (io), 24 P0.3/XTAL2/WAKEOUT (io)

## C8051F988-GM
designator U?
Ultra Low Power, Capacitive Sensing MCU, 25 MHz, 0.5 kB RAM, 4 kB Flash, -40 to 85 degC, 24-pin QFN; Manufacturer: Silicon Labs; PartNumber: C8051F988-GM; AEC-Q100: FALSE; Comparators: 1; Debug Interface: C2; Dig I/O Pins: 17; Flash: 4 kB; Internal Osc. Accuracy: +/-2%; MCU Core: 8051; MHz: 25; PCA Channels: 3; RAM: 0.5 kB; Temp Sensor: TRUE; Timers (16-bit): 4; Sub-Family: Low-Power MCUs; DatasheetVersion: Rev. 1.1; PackageReference: QFN-24; PackageDescription: 24-Pin Quad-Flat No-Leads Package, Body 4 x 4 mm, Pitch 0.5 mm; Supplier 1: Digi-Key; Supplier Part Number 1: 336-1959-5-ND; Supplier 2: Mouser; Supplier Part Number 2: 634-C8051F988-GM; Mounting Technology: Surface Mount; Code_JEDEC: MO-220; Code_IPC: J-STD-020; ComponentLink1Description: Manufacturer URL; ComponentLink1URL: http://www.silabs.com/; ComponentLink2Description: Datasheet; ComponentLink2URL: http://www.silabs.com/Support Documents/TechnicalDocs/C8051F99x.pdf; ComponentLink3Description: Package Specification; ComponentLink3URL: http://www.silabs.com/Support%20Documents/TechnicalDocs/C8051F93x-92x.pdf
footprint SLAB-QFN-24-2675x2675TP_N (QFN, 24-Leads, Body 4x4mm, Pitch 0.5mm, Thermal Pad 2.68x2.68mm, IPC Medium Density)
footprint SLAB-QFN-24-2675x2675TP_L (QFN, 24-Leads, Body 4x4mm, Pitch 0.5mm, Thermal Pad 2.68x2.68mm, IPC High Density)
footprint SLAB-QFN-24-2675x2675TP_M (QFN, 24-Leads, Body 4x4mm, Pitch 0.5mm, Thermal Pad 2.68x2.68mm, IPC Low Density)
pins: 1 NC, 2 GND (power) "Required Ground.", 3 VDD (power) "Power Supply Voltage. Must be 1.8 to 3.6 V", 4 NC, 5 NC, 6 ~{RST}/C2CK (io), 7 P2.7/C2D (io), 8 P1.7/XTAL4 (io), 9 P1.6/XTAL3 (io), 10 NC, 11 P1.5 (io) "Port 1.5. See Section “21. Port Input/Output” on  page 213 for a complete description.", 12 P1.4 (io) "Port 1.4. See Section “21. Port Input/Output” on  page 213 for a complete description.", 13 P1.3 (io) "Port 1.3. See Section “21. Port Input/Output” on  page 213 for a complete description.", 14 P1.2 (io) "Port 1.2. See Section “21. Port Input/Output” on  page 213 for a complete description.", 15 P1.1/CP0- (io), 16 P1.0/CP0+ (io), 17 P0.7/IREF0 (io), 18 P0.6/CNVSTR (io), 19 P0.5/RX (io), 20 P0.4/TX (io), 21 P0.3/XTAL2/WAKEOUT (io), 22 P0.2/XTAL1/RTCOUT (io), 23 P0.1/AGND (io), 24 P0.0/VREF (io), 25 GND (power) "Required Ground."

## C8051F988-GU
designator U?
Ultra Low Power, Capacitive Sensing MCU, 25 MHz, 0.5 kB RAM, 4 kB Flash, -40 to 85 degC, 24-pin SOP; Manufacturer: Silicon Labs; PartNumber: C8051F988-GU; AEC-Q100: FALSE; Comparators: 1; Debug Interface: C2; Dig I/O Pins: 17; Flash: 4 kB; Internal Osc. Accuracy: +/-2%; MCU Core: 8051; MHz: 25; PCA Channels: 3; RAM: 0.5 kB; Temp Sensor: TRUE; Timers (16-bit): 4; Sub-Family: Low-Power MCUs; DatasheetVersion: Rev. 1.1; PackageReference: QSOP-24; PackageDescription: 24-Pin Quarter-Size Small-Outline Package, Body 8.65 x 3.9 mm, Pitch 0.635 mm; Supplier 1: Digi-Key; Supplier Part Number 1: 336-1956-5-ND; Supplier 2: Mouser; Supplier Part Number 2: 634-C8051F988-GU; Mounting Technology: Surface Mount; Code_JEDEC: MO-147; Code_IPC: J-STD-020; ComponentLink1Description: Manufacturer URL; ComponentLink1URL: http://www.silabs.com/; ComponentLink2Description: Datasheet; ComponentLink2URL: http://www.silabs.com/Support Documents/TechnicalDocs/C8051F99x.pdf; ComponentLink3Description: Package Specification; ComponentLink3URL: http://www.silabs.com/Support%20Documents/TechnicalDocs/C8051F99x.pdf
footprint SLAB-QSOP-24_N (SOP, 24-Leads, Body 8.65x3.9mm, Pitch 0.635mm, IPC Medium Density)
footprint SLAB-QSOP-24_L (SOP, 24-Leads, Body 8.65x3.9mm, Pitch 0.635mm, IPC High Density)
footprint SLAB-QSOP-24_M (SOP, 24-Leads, Body 8.65x3.9mm, Pitch 0.635mm, IPC Low Density)
pins: 1 P0.2/XTAL1/RTCOUT (io), 2 P0.1/AGND (io), 3 P0.0/VREF (io), 4 NC, 5 GND (power) "Required Ground.", 6 VDD (power) "Power Supply Voltage. Must be 1.8 to 3.6 V", 7 NC, 8 NC, 9 ~{RST}/C2CK (io), 10 P2.7/C2D (io), 11 P1.7/XTAL4 (io), 12 P1.6/XTAL3 (io), 13 NC, 14 P1.5 (io) "Port 1.5. See Section “21. Port Input/Output” on  page 213 for a complete description.", 15 P1.4 (io) "Port 1.4. See Section “21. Port Input/Output” on  page 213 for a complete description.", 16 P1.3 (io) "Port 1.3. See Section “21. Port Input/Output” on  page 213 for a complete description.", 17 P1.2 (io) "Port 1.2. See Section “21. Port Input/Output” on  page 213 for a complete description.", 18 P1.1/CP0- (io), 19 P1.0/CP0+ (io), 20 P0.7/IREF0 (io), 21 P0.6/CNVSTR (io), 22 P0.5/RX (io), 23 P0.4/TX (io), 24 P0.3/XTAL2/WAKEOUT (io)

## C8051F989-GM
designator U?
Ultra Low Power, Capacitive Sensing MCU, 25 MHz, 0.5 kB RAM, 4 kB Flash, -40 to 85 degC, 24-pin QFN; Manufacturer: Silicon Labs; PartNumber: C8051F989-GM; AEC-Q100: FALSE; Comparators: 1; Debug Interface: C2; Dig I/O Pins: 17; Flash: 4 kB; Internal Osc. Accuracy: +/-2%; MCU Core: 8051; MHz: 25; PCA Channels: 3; RAM: 0.5 kB; Timers (16-bit): 4; Sub-Family: Low-Power MCUs; DatasheetVersion: Rev. 1.1; PackageReference: QFN-24; PackageDescription: 24-Pin Quad-Flat No-Leads Package, Body 4 x 4 mm, Pitch 0.5 mm; Supplier 1: Digi-Key; Supplier Part Number 1: 336-1957-5-ND; Supplier 2: Mouser; Supplier Part Number 2: 634-C8051F989-GM; Temp Sensor: FALSE; Mounting Technology: Surface Mount; Code_JEDEC: MO-220; Code_IPC: J-STD-020; ComponentLink1Description: Manufacturer URL; ComponentLink1URL: http://www.silabs.com/; ComponentLink2Description: Datasheet; ComponentLink2URL: http://www.silabs.com/Support Documents/TechnicalDocs/C8051F99x.pdf; ComponentLink3Description: Package Specification; ComponentLink3URL: http://www.silabs.com/Support%20Documents/TechnicalDocs/C8051F93x-92x.pdf
footprint SLAB-QFN-24-2675x2675TP_N (QFN, 24-Leads, Body 4x4mm, Pitch 0.5mm, Thermal Pad 2.68x2.68mm, IPC Medium Density)
footprint SLAB-QFN-24-2675x2675TP_L (QFN, 24-Leads, Body 4x4mm, Pitch 0.5mm, Thermal Pad 2.68x2.68mm, IPC High Density)
footprint SLAB-QFN-24-2675x2675TP_M (QFN, 24-Leads, Body 4x4mm, Pitch 0.5mm, Thermal Pad 2.68x2.68mm, IPC Low Density)
pins: 1 NC, 2 GND (power) "Required Ground.", 3 VDD (power) "Power Supply Voltage. Must be 1.8 to 3.6 V", 4 NC, 5 NC, 6 ~{RST}/C2CK (io), 7 P2.7/C2D (io), 8 P1.7/XTAL4 (io), 9 P1.6/XTAL3 (io), 10 NC, 11 P1.5 (io) "Port 1.5. See Section ”21. Port Input/Output“ on  page 213 for a complete description.", 12 P1.4 (io) "Port 1.4. See Section ”21. Port Input/Output“ on  page 213 for a complete description.", 13 P1.3 (io) "Port 1.3. See Section ”21. Port Input/Output“ on  page 213 for a complete description.", 14 P1.2 (io) "Port 1.2. See Section “21. Port Input/Output” on  page 213 for a complete description.", 15 P1.1/CP0- (io), 16 P1.0/CP0+ (io), 17 P0.7/IREF0 (io), 18 P0.6 (io) "Port 0.6. See Section "21. Port Input/Output" on  page 213 for a complete description.", 19 P0.5/RX (io), 20 P0.4/TX (io), 21 P0.3/XTAL2/WAKEOUT (io), 22 P0.2/XTAL1/RTCOUT (io), 23 P0.1 (io) "Port 0.1. See Port I/O Section for a complete description.", 24 P0.0 (io) "Port 0.0. See Port I/O Section for a complete description.", 25 GND (power) "Required Ground."

## C8051F989-GU
designator U?
Ultra Low Power, Capacitive Sensing MCU, 25 MHz, 0.5 kB RAM, 4 kB Flash, -40 to 85 degC, 24-pin SOP; Manufacturer: Silicon Labs; PartNumber: C8051F989-GU; AEC-Q100: FALSE; Comparators: 1; Debug Interface: C2; Dig I/O Pins: 17; Flash: 4 kB; Internal Osc. Accuracy: +/-2%; MCU Core: 8051; MHz: 25; PCA Channels: 3; RAM: 0.5 kB; Timers (16-bit): 4; Sub-Family: Low-Power MCUs; DatasheetVersion: Rev. 1.1; PackageReference: QSOP-24; PackageDescription: 24-Pin Quarter-Size Small-Outline Package, Body 8.65 x 3.9 mm, Pitch 0.635 mm; Supplier 1: Digi-Key; Supplier Part Number 1: 336-1958-5-ND; Supplier 2: Mouser; Supplier Part Number 2: 634-C8051F989-GU; Temp Sensor: FALSE; Mounting Technology: Surface Mount; Code_JEDEC: MO-147; Code_IPC: J-STD-020; ComponentLink1Description: Manufacturer URL; ComponentLink1URL: http://www.silabs.com/; ComponentLink2Description: Datasheet; ComponentLink2URL: http://www.silabs.com/Support Documents/TechnicalDocs/C8051F99x.pdf; ComponentLink3Description: Package Specification; ComponentLink3URL: http://www.silabs.com/Support%20Documents/TechnicalDocs/C8051F99x.pdf
footprint SLAB-QSOP-24_N (SOP, 24-Leads, Body 8.65x3.9mm, Pitch 0.635mm, IPC Medium Density)
footprint SLAB-QSOP-24_L (SOP, 24-Leads, Body 8.65x3.9mm, Pitch 0.635mm, IPC High Density)
footprint SLAB-QSOP-24_M (SOP, 24-Leads, Body 8.65x3.9mm, Pitch 0.635mm, IPC Low Density)
pins: 1 P0.2/XTAL1/RTCOUT (io), 2 P0.1 (io) "Port 0.1. See Port I/O Section for a complete description", 3 P0.0 (io) "Port 0.0. See Port I/O Section for a complete description.", 4 NC, 5 GND (power) "Required Ground.", 6 VDD (power) "Power Supply Voltage. Must be 1.8 to 3.6 V", 7 NC, 8 NC, 9 ~{RST}/C2CK (io), 10 P2.7/C2D (io), 11 P1.7/XTAL4 (io), 12 P1.6/XTAL3 (io), 13 NC, 14 P1.5 (io) "Port 1.5. See Section “21. Port Input/Output” on  page 213 for a complete description.", 15 P1.4 (io) "Port 1.4. See Section “21. Port Input/Output” on  page 213 for a complete description.", 16 P1.3 (io) "Port 1.3. See Section “21. Port Input/Output” on  page 213 for a complete description.", 17 P1.2 (io) "Port 1.2. See Section “21. Port Input/Output” on  page 213 for a complete description.", 18 P1.1/CP0- (io), 19 P1.0/CP0+ (io), 20 P0.7/IREF0 (io), 21 P0.6 (io) "Port 0.6. See Section “21. Port Input/Output” on  page 213 for a complete description.", 22 P0.5/RX (io), 23 P0.4/TX (io), 24 P0.3/XTAL2/WAKEOUT (io)

## SiM3L134-C-GM
designator U?
High-Performance, Low-Power, 32-Bit Precision32(TM) MCU Family, 50 MHz, 8 kB RAM, 32 kB Flash, -40 to 85 degC, 40-pin QFN; Manufacturer: Silicon Labs; PartNumber: SiM3L134-C-GM; ADC 1: 12-bit, 20-ch., 250 ksps; Comparators: 2; DAC: 10-bit; Debug Interface: SW; Dig I/O Pins: 28; Flash: 32 kB; Internal Osc. Accuracy: +/-2%; MCU Core: ARM Cortex-M3; MHz: 50; PCA Channels: 6; RAM: 8 kB; Temp Sensor: TRUE; Timers (16-bit): 3; Sub-Family: Low-Power MCUs; DatasheetVersion: Rev. 0.5; PackageReference: QFN-40; PackageDescription: 40-Pin Quad-Flat No-Leads Package, Body 6 x 6 mm, Pitch 0.5 mm; Supplier 1: Digi-Key; Supplier Part Number 1: 336-2350-ND; Supplier 2: Mouser; Supplier Part Number 2: 634-SIM3L134-C-GM; Mounting Technology: Surface Mount; Code_JEDEC: MO-220; Code_IPC: J-STD-020; ComponentLink1Description: Manufacturer URL; ComponentLink1URL: http://www.silabs.com/; ComponentLink2Description: Datasheet; ComponentLink2URL: http://www.silabs.com/Support Documents/TechnicalDocs/SiM3L1xx.pdf; ComponentLink3Description: Package Specification; ComponentLink3URL: http://www.silabs.com/Support%20Documents/TechnicalDocs/SiM3L1xx.pdf
footprint SLAB-QFN-40-4500x4500TP_N (QFN, 40-Leads, Body 6x6mm, Pitch 0.5mm, Thermal Pad 4.5x4.5mm, IPC Medium Density)
footprint SLAB-QFN-40-4500x4500TP_L (QFN, 40-Leads, Body 6x6mm, Pitch 0.5mm, Thermal Pad 4.5x4.5mm, IPC High Density)
footprint SLAB-QFN-40-4500x4500TP_M (QFN, 40-Leads, Body 6x6mm, Pitch 0.5mm, Thermal Pad 4.5x4.5mm, IPC Low Density)
part A pins: 1 PB0.1 (io), 2 PB0.0 (io), 3 SWDIO (io), 4 SWCLK (in), 11 PB3.9 (io), 12 PB3.8 (io), 13 PB3.7 (io), 14 PB3.6 (io), 15 PB3.5 (io), 16 PB3.4 (io), 17 PB3.3 (io), 18 PB3.2 (io), 19 PB3.1 (io), 20 PB3.0 (io), 21 PB2.7 (io), 22 PB2.6 (io), 23 PB2.5 (io), 24 PB2.4 (io), 26 PB2.3 (io), 27 PB2.2 (io), 28 PB2.1 (io), 29 PB2.0 (io), 30 PB0.9 (io), 31 PB0.8 (io), 32 PB0.7 (io), 33 RTC2, 34 RTC1, 35 ~{RESET} (in), 36 PB0.6/SWV (io), 37 PB0.5 (io), 38 PB0.4 (io), 39 PB0.3 (io), 40 PB0.2 (io)
part B pins: 5 VIO (power), 6 VIORF/VDRV (power), 7 VBAT/VBATDC (power), 8 IND, 9 VSS/VSSDC (power), 10 VDC (power), 25 VSS (power), 41 VSS (power)

## SiM3L136-C-GM
designator U?
High-Performance, Low-Power, 32-Bit Precision32(TM) MCU Family, 50 MHz, 8 kB RAM, 32 kB Flash, -40 to 85 degC, 64-pin QFN; Manufacturer: Silicon Labs; PartNumber: SiM3L136-C-GM; ADC 1: 12-bit, 23-ch., 250 ksps; Comparators: 2; DAC: 10-bit; Debug Interface: ETM; SW; Dig I/O Pins: 51; Flash: 32 kB; Internal Osc. Accuracy: +/-2%; MCU Core: ARM Cortex-M3; MHz: 50; PCA Channels: 6; RAM: 8 kB; Temp Sensor: TRUE; Timers (16-bit): 3; Sub-Family: Low-Power MCUs; DatasheetVersion: Rev. 0.5; PackageReference: QFN-64; PackageDescription: 64-Pin Quad-Flat No-Leads Package, Body 9 x 9 mm, Pitch 0.5 mm; Supplier 1: Digi-Key; Supplier Part Number 1: 336-2349-ND; Supplier 2: Mouser; Supplier Part Number 2: 634-SIM3L136-C-GM; Mounting Technology: Surface Mount; Code_JEDEC: MO-220; Code_IPC: J-STD-020; ComponentLink1Description: Manufacturer URL; ComponentLink1URL: http://www.silabs.com/; ComponentLink2Description: Datasheet; ComponentLink2URL: http://www.silabs.com/Support Documents/TechnicalDocs/SiM3L1xx.pdf; ComponentLink3Description: Package Specification; ComponentLink3URL: http://www.silabs.com/Support%20Documents/TechnicalDocs/SiM3U1xx.pdf
footprint SLAB-QFN-64-4100x4100TP_N (QFN, 64-Leads, Body 9x9mm, Pitch 0.5mm, Thermal Pad 4.1x4.1mm, IPC Medium Density)
footprint SLAB-QFN-64-4100x4100TP_L (QFN, 64-Leads, Body 9x9mm, Pitch 0.5mm, Thermal Pad 4.1x4.1mm, IPC High Density)
footprint SLAB-QFN-64-4100x4100TP_M (QFN, 64-Leads, Body 9x9mm, Pitch 0.5mm, Thermal Pad 4.1x4.1mm, IPC Low Density)
part A pins: 1 PB0.2 (io), 2 PB0.1 (io), 3 PB0.0 (io), 4 SWDIO (io), 5 SWCLK (in), 12 PB4.12/TRACECLK (io), 13 PB4.11/ETM0 (io), 14 PB4.10/ETM1 (io), 15 PB4.9/ETM2 (io), 16 PB4.8/ETM3 (io), 17 PB4.7 (io), 18 PB4.6 (io), 19 PB4.5 (io), 20 PB4.4 (io), 21 PB4.3 (io), 22 PB4.2 (io), 23 PB4.1 (io), 24 PB4.0 (io), 25 PB3.11 (io), 26 PB3.10 (io), 27 PB3.9 (io), 28 PB3.8 (io), 29 PB3.7 (io), 30 PB3.6 (io), 31 PB3.5 (io), 32 PB3.4 (io), 33 PB3.3 (io), 34 PB3.2 (io), 35 PB3.1 (io), 36 PB3.0 (io), 37 PB2.7 (io), 38 PB2.6 (io), 39 PB2.5 (io), 40 PB2.4 (io), 42 PB2.0 (io), 43 PB1.10 (io), 44 PB1.9 (io), 45 PB1.8 (io), 46 PB1.7 (io), 47 PB1.6 (io), 48 PB1.5 (io), 49 PB1.4 (io), 50 PB1.3 (io), 51 PB1.2 (io), 52 PB1.1 (io), 53 PB1.0 (io), 55 RTC2, 56 RTC1, 57 ~{RESET} (in), 58 PB0.9/SWV (io), 59 PB0.8 (io), 60 PB0.7 (io), 61 PB0.6 (io), 62 PB0.5 (io), 63 PB0.4 (io), 64 PB0.3 (io)
part B pins: 6 VIO (power), 7 VIORF/VDRV (power), 8 VBAT/VBATDC (power), 9 IND, 10 VSS/VSSDC (power), 11 VDC (power), 41 VSS (power), 54 VLCD (power), 65 VSS (power)

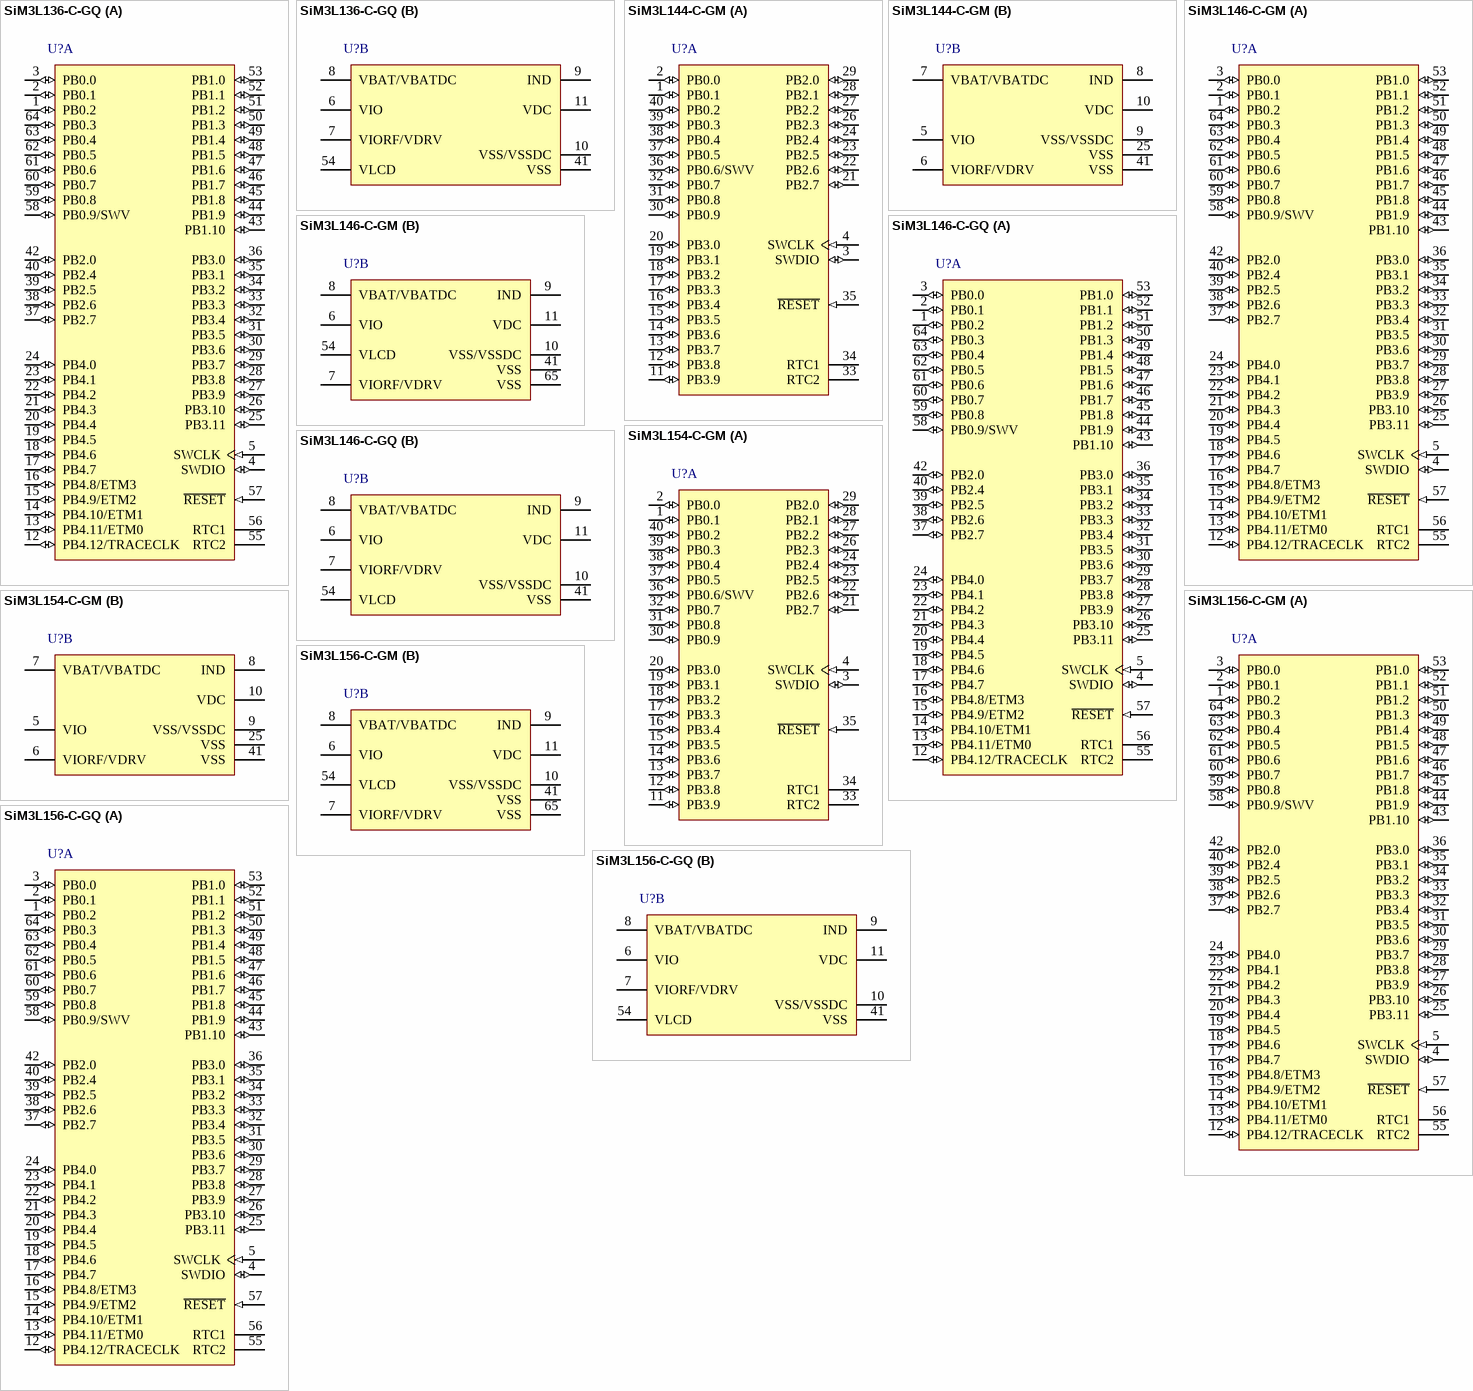
[diagram p4: symbols SiM3L136-C-GQ to SiM3L156-C-GQ]

## SiM3L136-C-GQ
designator U?
High-Performance, Low-Power, 32-Bit Precision32(TM) MCU Family, 50 MHz, 8 kB RAM, 32 kB Flash, -40 to 85 degC, 64-pin QFP; Manufacturer: Silicon Labs; PartNumber: SiM3L136-C-GQ; ADC 1: 12-bit, 23-ch., 250 ksps; Comparators: 2; DAC: 10-bit; Debug Interface: ETM; SW; Dig I/O Pins: 51; Flash: 32 kB; Internal Osc. Accuracy: +/-2%; MCU Core: ARM Cortex-M3; MHz: 50; PCA Channels: 6; RAM: 8 kB; Temp Sensor: TRUE; Timers (16-bit): 3; Sub-Family: Low-Power MCUs; DatasheetVersion: Rev. 0.5; PackageReference: TQFP-64; PackageDescription: 64-Pin Thin Quad Flat Package, Body 10 x 10 mm, Pitch 0.5 mm; Supplier 1: Digi-Key; Supplier Part Number 1: 336-2346-ND; Supplier 2: Mouser; Supplier Part Number 2: 634-SIM3L136-C-GQ; Mounting Technology: Surface Mount; Code_JEDEC: MS-026; Code_IPC: J-STD-020; ComponentLink1Description: Manufacturer URL; ComponentLink1URL: http://www.silabs.com/; ComponentLink2Description: Datasheet; ComponentLink2URL: http://www.silabs.com/Support Documents/TechnicalDocs/SiM3L1xx.pdf; ComponentLink3Description: Package Specification; ComponentLink3URL: http://www.silabs.com/Support%20Documents/TechnicalDocs/C8051F70x.pdf
footprint SLAB-TQFP-64_N (QFP, 64-Leads, Body 10x10mm, Pitch 0.5mm, IPC Medium Density)
footprint SLAB-TQFP-64_L (QFP, 64-Leads, Body 10x10mm, Pitch 0.5mm, IPC High Density)
footprint SLAB-TQFP-64_M (QFP, 64-Leads, Body 10x10mm, Pitch 0.5mm, IPC Low Density)
part A pins: 1 PB0.2 (io), 2 PB0.1 (io), 3 PB0.0 (io), 4 SWDIO (io), 5 SWCLK (in), 12 PB4.12/TRACECLK (io), 13 PB4.11/ETM0 (io), 14 PB4.10/ETM1 (io), 15 PB4.9/ETM2 (io), 16 PB4.8/ETM3 (io), 17 PB4.7 (io), 18 PB4.6 (io), 19 PB4.5 (io), 20 PB4.4 (io), 21 PB4.3 (io), 22 PB4.2 (io), 23 PB4.1 (io), 24 PB4.0 (io), 25 PB3.11 (io), 26 PB3.10 (io), 27 PB3.9 (io), 28 PB3.8 (io), 29 PB3.7 (io), 30 PB3.6 (io), 31 PB3.5 (io), 32 PB3.4 (io), 33 PB3.3 (io), 34 PB3.2 (io), 35 PB3.1 (io), 36 PB3.0 (io), 37 PB2.7 (io), 38 PB2.6 (io), 39 PB2.5 (io), 40 PB2.4 (io), 42 PB2.0 (io), 43 PB1.10 (io), 44 PB1.9 (io), 45 PB1.8 (io), 46 PB1.7 (io), 47 PB1.6 (io), 48 PB1.5 (io), 49 PB1.4 (io), 50 PB1.3 (io), 51 PB1.2 (io), 52 PB1.1 (io), 53 PB1.0 (io), 55 RTC2, 56 RTC1, 57 ~{RESET} (in), 58 PB0.9/SWV (io), 59 PB0.8 (io), 60 PB0.7 (io), 61 PB0.6 (io), 62 PB0.5 (io), 63 PB0.4 (io), 64 PB0.3 (io)
part B pins: 6 VIO (power), 7 VIORF/VDRV (power), 8 VBAT/VBATDC (power), 9 IND, 10 VSS/VSSDC (power), 11 VDC (power), 41 VSS (power), 54 VLCD (power)